# Altium schematic symbol library kmilo17pet-LT_PMIC_LT.SchLib: 2252 symbols (part 29 of 124)
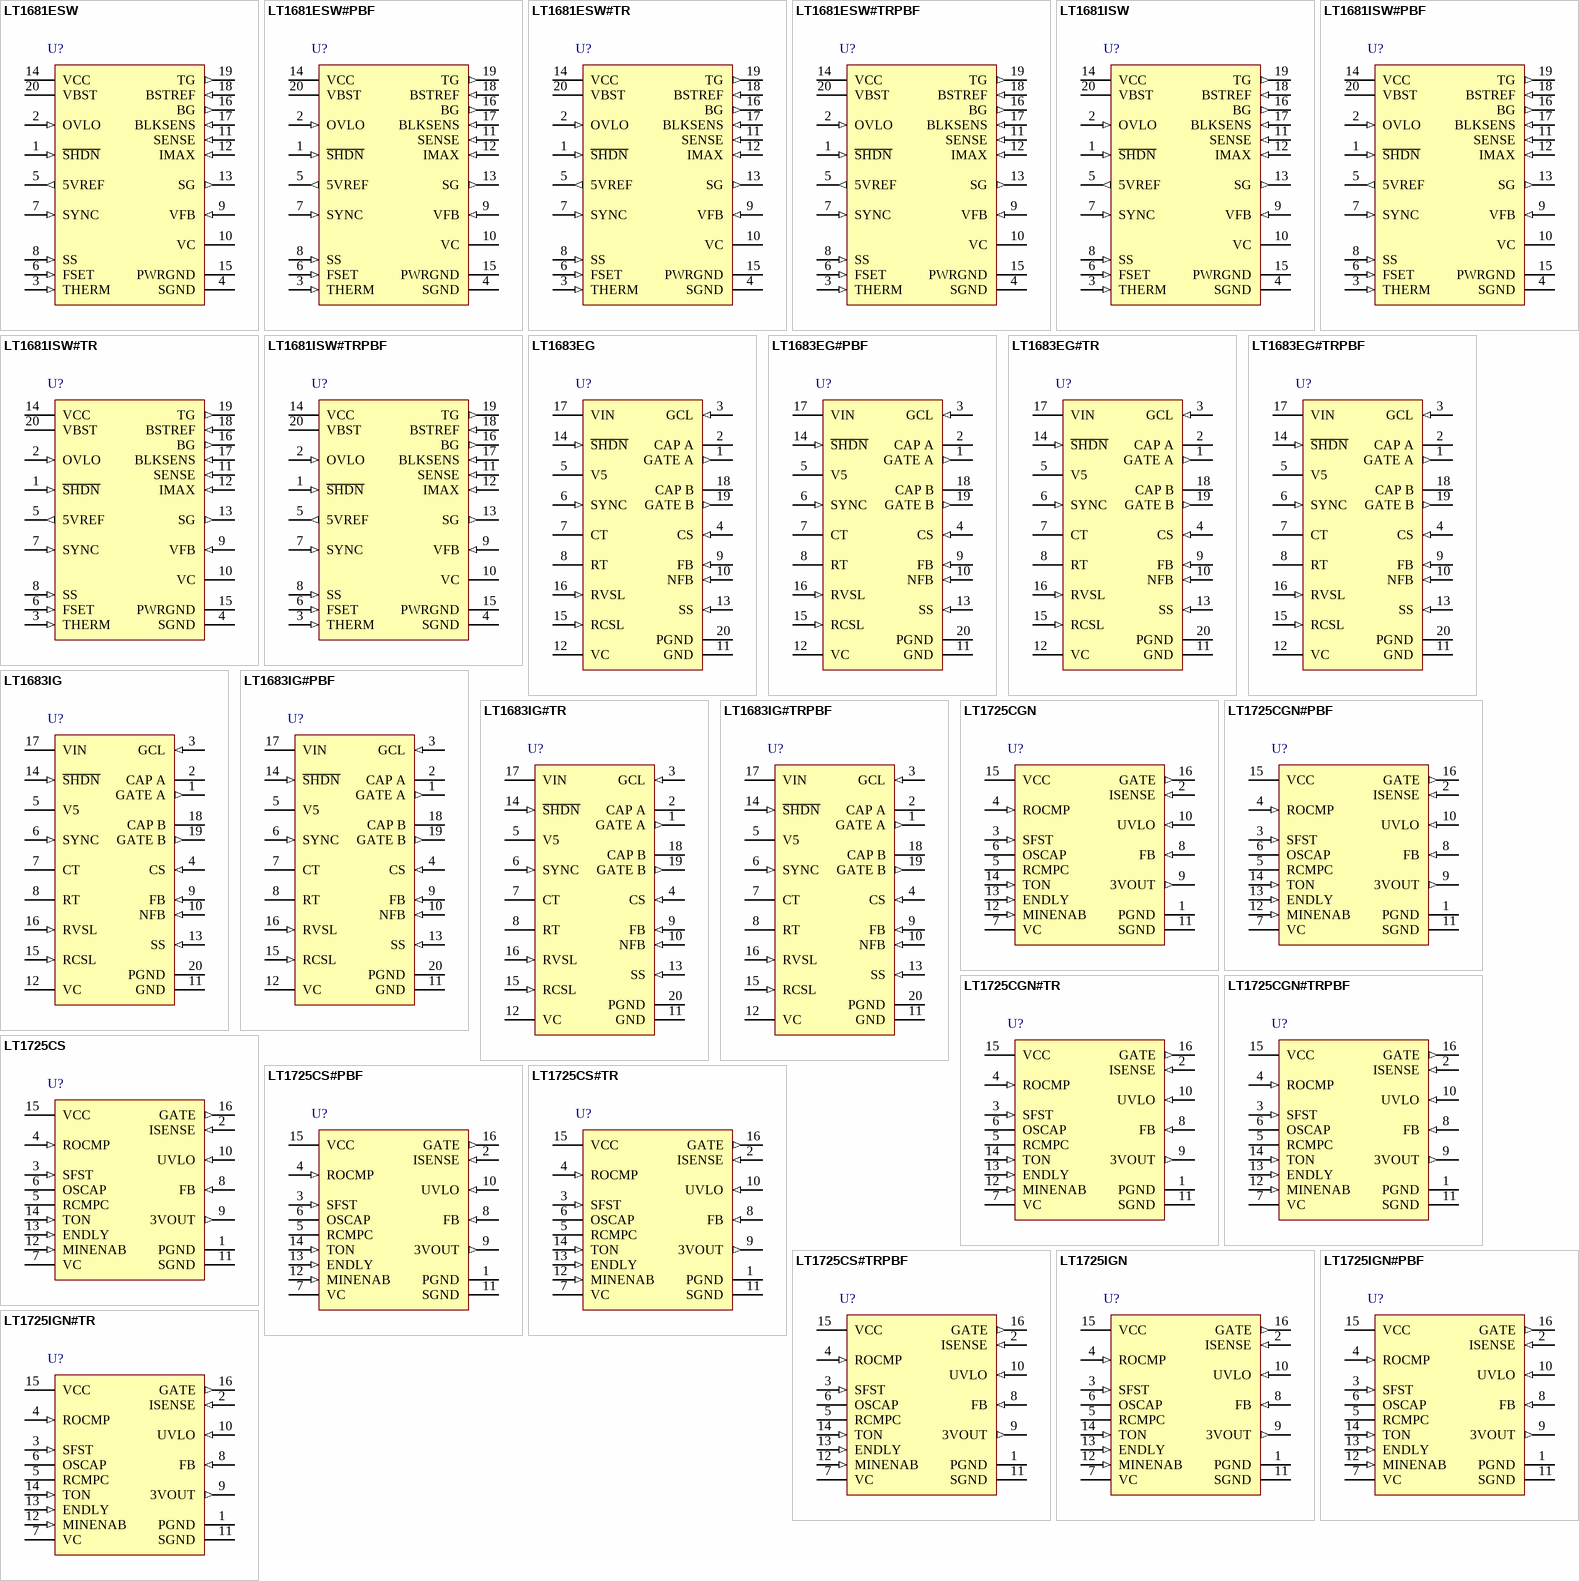
[diagram p99: symbols LT1681ESW to LT1725IGN#TR]

## LT1683EG#TR
designator U?
Slew Rate Controlled Ultralow Noise Push-Pull DC/DC Controller, 20-pin SOP (G-20), -40 to 125 degC, Tape and Reel; Manufacturer: Linear Technology; PartNumber: LT1683EG#TR; Number of Outputs: 1; PackageReference: G-20; PackageDescription: 20-Pin Plastic SSOP, Body 7.2 x 5.3 mm, Pitch 0.65 mm; Supplier 1: Digi-Key; Supplier Part Number 1: LT1683EGTR-ND; RoHS: FALSE
footprint LT-G-20_N (SOP, 20-Leads, Body 7.2x5.3mm, Pitch 0.65mm, IPC Medium Density)
footprint LT-G-20_L (SOP, 20-Leads, Body 7.2x5.3mm, Pitch 0.65mm, IPC High Density)
footprint LT-G-20_M (SOP, 20-Leads, Body 7.2x5.3mm, Pitch 0.65mm, IPC Low Density)
pins: 1 GATE A (out) "These pins connect to the gates of the external N-channel MOSFETs. GATE A and GATE B turn on with alternate clock cycles. These drivers are capable of sinking and sourcing at least 300mA. The GCL pin sets the upper voltage (See Datasheet)", 2 CAP A "These pins are the feedback nodes for the external voltage slewing capacitors. Normally a small 1pf to 5pf capacitor is connected from this pin to the drain of its respective MOSFET. The voltage slew rate is inversely (See Datasheet)", 3 GCL (in) "This pin sets the maximum gate voltage to the GATE A and GATE B pins to the MOSFET gate drives. This pin should be either tied to a Zener, a voltage source or VIN. If the pin is tied to a Zener or a voltage source, the (See Datasheet)", 4 CS (in) "This is the input to the current sense amplifier. It is used for both current mode control and current slewing of the external MOSFETs. Current sense is accomplished via a sense resistor (RS) connected from the sources of (See Datasheet)", 5 V5 (power) "This pin provides a 5V output that can sink or source 10mA for use by external components. V5 source current comes from VIN . Sink current goes to GND. VIN must be greater than 6.5V in order for this voltage to be in (See Datasheet)", 6 SYNC (in) "The SYNC pin can be used to synchronize the part to an external clock. The oscillator frequency should be set close to the external clock frequency. Synchronizing the clock to an external reference is useful for creating (See Datasheet)", 7 CT "The oscillator capacitor pin is used in conjunction with RT to set the oscillator frequency. For RT = 16.9k: COSC(nf) = 129/fOSC(kHz)", 8 RT "The oscillator resistor pin is used to set the charge and discharge currents of the oscillator capacitor. The nominal value is 16.9k. It is possible to adjust this resistance +/-25% to set oscillator frequency more (See Datasheet)", 9 FB (in) "The feedback pin is used for positive voltage sensing. It is the inverting input to the error amplifier. The noninverting input of this amplifier connects internally to a 1.25V reference. If the voltage on this pin exceeds (See Datasheet)", 10 NFB (in) "The negative feedback pin is used for sensing a negative output voltage. The pin is connected to the inverting input of the negative feedback amplifier through a 100k source resistor. The negative feedback amplifier provides (See Datasheet)", 11 GND (power) "Signal Ground. The internal error amplifier, negative feedback amplifier, oscillator, slew control circuitry, V5 regulator, current sense and the bandgap reference are referred to this ground. Keep the connection to this (See Datasheet)", 12 VC "The compensation pin is used for frequency compensation and current limiting. It is the output of the error amplifier and the input of the current comparator. Loop frequency compensation can be performed with an RC network (See Datasheet)", 13 SS (in) "The SS pin allows for ramping of the switch current threshold at startup. Normally a capacitor is placed on this pin to ground. An internal 9uA current source will charge this capacitor up. The voltage on the VC pin cannot (See Datasheet)", 14 ~{SHDN} (in) "The shutdown pin can disable the switcher. Grounding this pin will disable all internal circuitry. Increasing S\H\D\N\ voltage will initially turn on the internal bandgap regulator. This provides a precision threshold for (See Datasheet)", 15 RCSL (in) "A resistor to ground sets the current slew rate for the external drive MOSFETs during switching. The minimum resistor value is 3.3k and the maximum value is 68k. The time to slew between on and off states of the MOSFET (See Datasheet)", 16 RVSL (in) "A resistor to ground sets the voltage slew rate for the drains of the external drive MOSFETs. The minimum resistor value is 3.3k and the maximum value is 68k. The time to slew between on and off states on the MOSFET drain (See Datasheet)", 17 VIN (power) "Input Supply. All supply current for the part comes from this pin including gate drives and V5 regulator. Charge current for gate drives can produce current pulses of hundreds of milliamperes. Bypass this pin with a low ESR (See Datasheet)", 18 CAP B "These pins are the feedback nodes for the external voltage slewing capacitors. Normally a small 1pf to 5pf capacitor is connected from this pin to the drain of its respective MOSFET. The voltage slew rate is inversely (See Datasheet)", 19 GATE B (out) "These pins connect to the gates of the external N-channel MOSFETs. GATE A and GATE B turn on with alternate clock cycles. These drivers are capable of sinking and sourcing at least 300mA. The GCL pin sets the upper voltage (See Datasheet)", 20 PGND (power) "Power Driver Ground. This ground comes from the MOSFET gate drivers. This pin can have several hundred milliamperes of current on it when the external MOSFETs are being turned off."

## LT1683EG#TRPBF
designator U?
Slew Rate Controlled Ultralow Noise Push-Pull DC/DC Controller, 20-pin SOP (G-20), -40 to 125 degC, Pb-Free, Tape and Reel; Manufacturer: Linear Technology; PartNumber: LT1683EG#TRPBF; Number of Outputs: 1; PackageReference: G-20; PackageDescription: 20-Pin Plastic SSOP, Body 7.2 x 5.3 mm, Pitch 0.65 mm; Supplier 1: Digi-Key; Supplier Part Number 1: LT1683EG#TRPBF-ND; RoHS: TRUE
footprint LT-G-20_N (SOP, 20-Leads, Body 7.2x5.3mm, Pitch 0.65mm, IPC Medium Density)
footprint LT-G-20_L (SOP, 20-Leads, Body 7.2x5.3mm, Pitch 0.65mm, IPC High Density)
footprint LT-G-20_M (SOP, 20-Leads, Body 7.2x5.3mm, Pitch 0.65mm, IPC Low Density)
pins: 1 GATE A (out) "These pins connect to the gates of the external N-channel MOSFETs. GATE A and GATE B turn on with alternate clock cycles. These drivers are capable of sinking and sourcing at least 300mA. The GCL pin sets the upper voltage (See Datasheet)", 2 CAP A "These pins are the feedback nodes for the external voltage slewing capacitors. Normally a small 1pf to 5pf capacitor is connected from this pin to the drain of its respective MOSFET. The voltage slew rate is inversely (See Datasheet)", 3 GCL (in) "This pin sets the maximum gate voltage to the GATE A and GATE B pins to the MOSFET gate drives. This pin should be either tied to a Zener, a voltage source or VIN. If the pin is tied to a Zener or a voltage source, the (See Datasheet)", 4 CS (in) "This is the input to the current sense amplifier. It is used for both current mode control and current slewing of the external MOSFETs. Current sense is accomplished via a sense resistor (RS) connected from the sources of (See Datasheet)", 5 V5 (power) "This pin provides a 5V output that can sink or source 10mA for use by external components. V5 source current comes from VIN . Sink current goes to GND. VIN must be greater than 6.5V in order for this voltage to be in (See Datasheet)", 6 SYNC (in) "The SYNC pin can be used to synchronize the part to an external clock. The oscillator frequency should be set close to the external clock frequency. Synchronizing the clock to an external reference is useful for creating (See Datasheet)", 7 CT "The oscillator capacitor pin is used in conjunction with RT to set the oscillator frequency. For RT = 16.9k: COSC(nf) = 129/fOSC(kHz)", 8 RT "The oscillator resistor pin is used to set the charge and discharge currents of the oscillator capacitor. The nominal value is 16.9k. It is possible to adjust this resistance +/-25% to set oscillator frequency more (See Datasheet)", 9 FB (in) "The feedback pin is used for positive voltage sensing. It is the inverting input to the error amplifier. The noninverting input of this amplifier connects internally to a 1.25V reference. If the voltage on this pin exceeds (See Datasheet)", 10 NFB (in) "The negative feedback pin is used for sensing a negative output voltage. The pin is connected to the inverting input of the negative feedback amplifier through a 100k source resistor. The negative feedback amplifier provides (See Datasheet)", 11 GND (power) "Signal Ground. The internal error amplifier, negative feedback amplifier, oscillator, slew control circuitry, V5 regulator, current sense and the bandgap reference are referred to this ground. Keep the connection to this (See Datasheet)", 12 VC "The compensation pin is used for frequency compensation and current limiting. It is the output of the error amplifier and the input of the current comparator. Loop frequency compensation can be performed with an RC network (See Datasheet)", 13 SS (in) "The SS pin allows for ramping of the switch current threshold at startup. Normally a capacitor is placed on this pin to ground. An internal 9uA current source will charge this capacitor up. The voltage on the VC pin cannot (See Datasheet)", 14 ~{SHDN} (in) "The shutdown pin can disable the switcher. Grounding this pin will disable all internal circuitry. Increasing S\H\D\N\ voltage will initially turn on the internal bandgap regulator. This provides a precision threshold for (See Datasheet)", 15 RCSL (in) "A resistor to ground sets the current slew rate for the external drive MOSFETs during switching. The minimum resistor value is 3.3k and the maximum value is 68k. The time to slew between on and off states of the MOSFET (See Datasheet)", 16 RVSL (in) "A resistor to ground sets the voltage slew rate for the drains of the external drive MOSFETs. The minimum resistor value is 3.3k and the maximum value is 68k. The time to slew between on and off states on the MOSFET drain (See Datasheet)", 17 VIN (power) "Input Supply. All supply current for the part comes from this pin including gate drives and V5 regulator. Charge current for gate drives can produce current pulses of hundreds of milliamperes. Bypass this pin with a low ESR (See Datasheet)", 18 CAP B "These pins are the feedback nodes for the external voltage slewing capacitors. Normally a small 1pf to 5pf capacitor is connected from this pin to the drain of its respective MOSFET. The voltage slew rate is inversely (See Datasheet)", 19 GATE B (out) "These pins connect to the gates of the external N-channel MOSFETs. GATE A and GATE B turn on with alternate clock cycles. These drivers are capable of sinking and sourcing at least 300mA. The GCL pin sets the upper voltage (See Datasheet)", 20 PGND (power) "Power Driver Ground. This ground comes from the MOSFET gate drivers. This pin can have several hundred milliamperes of current on it when the external MOSFETs are being turned off."

## LT1683IG
designator U?
Slew Rate Controlled Ultralow Noise Push-Pull DC/DC Controller, 20-pin SOP (G-20), -40 to 125 degC; Manufacturer: Linear Technology; PartNumber: LT1683IG; Number of Outputs: 1; PackageReference: G-20; PackageDescription: 20-Pin Plastic SSOP, Body 7.2 x 5.3 mm, Pitch 0.65 mm; Supplier 1: Digi-Key; Supplier Part Number 1: LT1683IG-ND; RoHS: FALSE
footprint LT-G-20_N (SOP, 20-Leads, Body 7.2x5.3mm, Pitch 0.65mm, IPC Medium Density)
footprint LT-G-20_L (SOP, 20-Leads, Body 7.2x5.3mm, Pitch 0.65mm, IPC High Density)
footprint LT-G-20_M (SOP, 20-Leads, Body 7.2x5.3mm, Pitch 0.65mm, IPC Low Density)
pins: 1 GATE A (out) "These pins connect to the gates of the external N-channel MOSFETs. GATE A and GATE B turn on with alternate clock cycles. These drivers are capable of sinking and sourcing at least 300mA. The GCL pin sets the upper voltage (See Datasheet)", 2 CAP A "These pins are the feedback nodes for the external voltage slewing capacitors. Normally a small 1pf to 5pf capacitor is connected from this pin to the drain of its respective MOSFET. The voltage slew rate is inversely (See Datasheet)", 3 GCL (in) "This pin sets the maximum gate voltage to the GATE A and GATE B pins to the MOSFET gate drives. This pin should be either tied to a Zener, a voltage source or VIN. If the pin is tied to a Zener or a voltage source, the (See Datasheet)", 4 CS (in) "This is the input to the current sense amplifier. It is used for both current mode control and current slewing of the external MOSFETs. Current sense is accomplished via a sense resistor (RS) connected from the sources of (See Datasheet)", 5 V5 (power) "This pin provides a 5V output that can sink or source 10mA for use by external components. V5 source current comes from VIN . Sink current goes to GND. VIN must be greater than 6.5V in order for this voltage to be in (See Datasheet)", 6 SYNC (in) "The SYNC pin can be used to synchronize the part to an external clock. The oscillator frequency should be set close to the external clock frequency. Synchronizing the clock to an external reference is useful for creating (See Datasheet)", 7 CT "The oscillator capacitor pin is used in conjunction with RT to set the oscillator frequency. For RT = 16.9k: COSC(nf) = 129/fOSC(kHz)", 8 RT "The oscillator resistor pin is used to set the charge and discharge currents of the oscillator capacitor. The nominal value is 16.9k. It is possible to adjust this resistance +/-25% to set oscillator frequency more (See Datasheet)", 9 FB (in) "The feedback pin is used for positive voltage sensing. It is the inverting input to the error amplifier. The noninverting input of this amplifier connects internally to a 1.25V reference. If the voltage on this pin exceeds (See Datasheet)", 10 NFB (in) "The negative feedback pin is used for sensing a negative output voltage. The pin is connected to the inverting input of the negative feedback amplifier through a 100k source resistor. The negative feedback amplifier provides (See Datasheet)", 11 GND (power) "Signal Ground. The internal error amplifier, negative feedback amplifier, oscillator, slew control circuitry, V5 regulator, current sense and the bandgap reference are referred to this ground. Keep the connection to this (See Datasheet)", 12 VC "The compensation pin is used for frequency compensation and current limiting. It is the output of the error amplifier and the input of the current comparator. Loop frequency compensation can be performed with an RC network (See Datasheet)", 13 SS (in) "The SS pin allows for ramping of the switch current threshold at startup. Normally a capacitor is placed on this pin to ground. An internal 9uA current source will charge this capacitor up. The voltage on the VC pin cannot (See Datasheet)", 14 ~{SHDN} (in) "The shutdown pin can disable the switcher. Grounding this pin will disable all internal circuitry. Increasing S\H\D\N\ voltage will initially turn on the internal bandgap regulator. This provides a precision threshold for (See Datasheet)", 15 RCSL (in) "A resistor to ground sets the current slew rate for the external drive MOSFETs during switching. The minimum resistor value is 3.3k and the maximum value is 68k. The time to slew between on and off states of the MOSFET (See Datasheet)", 16 RVSL (in) "A resistor to ground sets the voltage slew rate for the drains of the external drive MOSFETs. The minimum resistor value is 3.3k and the maximum value is 68k. The time to slew between on and off states on the MOSFET drain (See Datasheet)", 17 VIN (power) "Input Supply. All supply current for the part comes from this pin including gate drives and V5 regulator. Charge current for gate drives can produce current pulses of hundreds of milliamperes. Bypass this pin with a low ESR (See Datasheet)", 18 CAP B "These pins are the feedback nodes for the external voltage slewing capacitors. Normally a small 1pf to 5pf capacitor is connected from this pin to the drain of its respective MOSFET. The voltage slew rate is inversely (See Datasheet)", 19 GATE B (out) "These pins connect to the gates of the external N-channel MOSFETs. GATE A and GATE B turn on with alternate clock cycles. These drivers are capable of sinking and sourcing at least 300mA. The GCL pin sets the upper voltage (See Datasheet)", 20 PGND (power) "Power Driver Ground. This ground comes from the MOSFET gate drivers. This pin can have several hundred milliamperes of current on it when the external MOSFETs are being turned off."

## LT1683IG#PBF
designator U?
Slew Rate Controlled Ultralow Noise Push-Pull DC/DC Controller, 20-pin SOP (G-20), -40 to 125 degC, Pb-Free; Manufacturer: Linear Technology; PartNumber: LT1683IG#PBF; Number of Outputs: 1; PackageReference: G-20; PackageDescription: 20-Pin Plastic SSOP, Body 7.2 x 5.3 mm, Pitch 0.65 mm; Supplier 1: Digi-Key; Supplier Part Number 1: LT1683IG#PBF-ND; RoHS: TRUE
footprint LT-G-20_N (SOP, 20-Leads, Body 7.2x5.3mm, Pitch 0.65mm, IPC Medium Density)
footprint LT-G-20_L (SOP, 20-Leads, Body 7.2x5.3mm, Pitch 0.65mm, IPC High Density)
footprint LT-G-20_M (SOP, 20-Leads, Body 7.2x5.3mm, Pitch 0.65mm, IPC Low Density)
pins: 1 GATE A (out) "These pins connect to the gates of the external N-channel MOSFETs. GATE A and GATE B turn on with alternate clock cycles. These drivers are capable of sinking and sourcing at least 300mA. The GCL pin sets the upper voltage (See Datasheet)", 2 CAP A "These pins are the feedback nodes for the external voltage slewing capacitors. Normally a small 1pf to 5pf capacitor is connected from this pin to the drain of its respective MOSFET. The voltage slew rate is inversely (See Datasheet)", 3 GCL (in) "This pin sets the maximum gate voltage to the GATE A and GATE B pins to the MOSFET gate drives. This pin should be either tied to a Zener, a voltage source or VIN. If the pin is tied to a Zener or a voltage source, the (See Datasheet)", 4 CS (in) "This is the input to the current sense amplifier. It is used for both current mode control and current slewing of the external MOSFETs. Current sense is accomplished via a sense resistor (RS) connected from the sources of (See Datasheet)", 5 V5 (power) "This pin provides a 5V output that can sink or source 10mA for use by external components. V5 source current comes from VIN . Sink current goes to GND. VIN must be greater than 6.5V in order for this voltage to be in (See Datasheet)", 6 SYNC (in) "The SYNC pin can be used to synchronize the part to an external clock. The oscillator frequency should be set close to the external clock frequency. Synchronizing the clock to an external reference is useful for creating (See Datasheet)", 7 CT "The oscillator capacitor pin is used in conjunction with RT to set the oscillator frequency. For RT = 16.9k: COSC(nf) = 129/fOSC(kHz)", 8 RT "The oscillator resistor pin is used to set the charge and discharge currents of the oscillator capacitor. The nominal value is 16.9k. It is possible to adjust this resistance +/-25% to set oscillator frequency more (See Datasheet)", 9 FB (in) "The feedback pin is used for positive voltage sensing. It is the inverting input to the error amplifier. The noninverting input of this amplifier connects internally to a 1.25V reference. If the voltage on this pin exceeds (See Datasheet)", 10 NFB (in) "The negative feedback pin is used for sensing a negative output voltage. The pin is connected to the inverting input of the negative feedback amplifier through a 100k source resistor. The negative feedback amplifier provides (See Datasheet)", 11 GND (power) "Signal Ground. The internal error amplifier, negative feedback amplifier, oscillator, slew control circuitry, V5 regulator, current sense and the bandgap reference are referred to this ground. Keep the connection to this (See Datasheet)", 12 VC "The compensation pin is used for frequency compensation and current limiting. It is the output of the error amplifier and the input of the current comparator. Loop frequency compensation can be performed with an RC network (See Datasheet)", 13 SS (in) "The SS pin allows for ramping of the switch current threshold at startup. Normally a capacitor is placed on this pin to ground. An internal 9uA current source will charge this capacitor up. The voltage on the VC pin cannot (See Datasheet)", 14 ~{SHDN} (in) "The shutdown pin can disable the switcher. Grounding this pin will disable all internal circuitry. Increasing S\H\D\N\ voltage will initially turn on the internal bandgap regulator. This provides a precision threshold for (See Datasheet)", 15 RCSL (in) "A resistor to ground sets the current slew rate for the external drive MOSFETs during switching. The minimum resistor value is 3.3k and the maximum value is 68k. The time to slew between on and off states of the MOSFET (See Datasheet)", 16 RVSL (in) "A resistor to ground sets the voltage slew rate for the drains of the external drive MOSFETs. The minimum resistor value is 3.3k and the maximum value is 68k. The time to slew between on and off states on the MOSFET drain (See Datasheet)", 17 VIN (power) "Input Supply. All supply current for the part comes from this pin including gate drives and V5 regulator. Charge current for gate drives can produce current pulses of hundreds of milliamperes. Bypass this pin with a low ESR (See Datasheet)", 18 CAP B "These pins are the feedback nodes for the external voltage slewing capacitors. Normally a small 1pf to 5pf capacitor is connected from this pin to the drain of its respective MOSFET. The voltage slew rate is inversely (See Datasheet)", 19 GATE B (out) "These pins connect to the gates of the external N-channel MOSFETs. GATE A and GATE B turn on with alternate clock cycles. These drivers are capable of sinking and sourcing at least 300mA. The GCL pin sets the upper voltage (See Datasheet)", 20 PGND (power) "Power Driver Ground. This ground comes from the MOSFET gate drivers. This pin can have several hundred milliamperes of current on it when the external MOSFETs are being turned off."

## LT1683IG#TR
designator U?
Slew Rate Controlled Ultralow Noise Push-Pull DC/DC Controller, 20-pin SOP (G-20), -40 to 125 degC, Tape and Reel; Manufacturer: Linear Technology; PartNumber: LT1683IG#TR; Number of Outputs: 1; PackageReference: G-20; PackageDescription: 20-Pin Plastic SSOP, Body 7.2 x 5.3 mm, Pitch 0.65 mm; Supplier 1: Digi-Key; Supplier Part Number 1: LT1683IGTR-ND; RoHS: FALSE
footprint LT-G-20_N (SOP, 20-Leads, Body 7.2x5.3mm, Pitch 0.65mm, IPC Medium Density)
footprint LT-G-20_L (SOP, 20-Leads, Body 7.2x5.3mm, Pitch 0.65mm, IPC High Density)
footprint LT-G-20_M (SOP, 20-Leads, Body 7.2x5.3mm, Pitch 0.65mm, IPC Low Density)
pins: 1 GATE A (out) "These pins connect to the gates of the external N-channel MOSFETs. GATE A and GATE B turn on with alternate clock cycles. These drivers are capable of sinking and sourcing at least 300mA. The GCL pin sets the upper voltage (See Datasheet)", 2 CAP A "These pins are the feedback nodes for the external voltage slewing capacitors. Normally a small 1pf to 5pf capacitor is connected from this pin to the drain of its respective MOSFET. The voltage slew rate is inversely (See Datasheet)", 3 GCL (in) "This pin sets the maximum gate voltage to the GATE A and GATE B pins to the MOSFET gate drives. This pin should be either tied to a Zener, a voltage source or VIN. If the pin is tied to a Zener or a voltage source, the (See Datasheet)", 4 CS (in) "This is the input to the current sense amplifier. It is used for both current mode control and current slewing of the external MOSFETs. Current sense is accomplished via a sense resistor (RS) connected from the sources of (See Datasheet)", 5 V5 (power) "This pin provides a 5V output that can sink or source 10mA for use by external components. V5 source current comes from VIN . Sink current goes to GND. VIN must be greater than 6.5V in order for this voltage to be in (See Datasheet)", 6 SYNC (in) "The SYNC pin can be used to synchronize the part to an external clock. The oscillator frequency should be set close to the external clock frequency. Synchronizing the clock to an external reference is useful for creating (See Datasheet)", 7 CT "The oscillator capacitor pin is used in conjunction with RT to set the oscillator frequency. For RT = 16.9k: COSC(nf) = 129/fOSC(kHz)", 8 RT "The oscillator resistor pin is used to set the charge and discharge currents of the oscillator capacitor. The nominal value is 16.9k. It is possible to adjust this resistance +/-25% to set oscillator frequency more (See Datasheet)", 9 FB (in) "The feedback pin is used for positive voltage sensing. It is the inverting input to the error amplifier. The noninverting input of this amplifier connects internally to a 1.25V reference. If the voltage on this pin exceeds (See Datasheet)", 10 NFB (in) "The negative feedback pin is used for sensing a negative output voltage. The pin is connected to the inverting input of the negative feedback amplifier through a 100k source resistor. The negative feedback amplifier provides (See Datasheet)", 11 GND (power) "Signal Ground. The internal error amplifier, negative feedback amplifier, oscillator, slew control circuitry, V5 regulator, current sense and the bandgap reference are referred to this ground. Keep the connection to this (See Datasheet)", 12 VC "The compensation pin is used for frequency compensation and current limiting. It is the output of the error amplifier and the input of the current comparator. Loop frequency compensation can be performed with an RC network (See Datasheet)", 13 SS (in) "The SS pin allows for ramping of the switch current threshold at startup. Normally a capacitor is placed on this pin to ground. An internal 9uA current source will charge this capacitor up. The voltage on the VC pin cannot (See Datasheet)", 14 ~{SHDN} (in) "The shutdown pin can disable the switcher. Grounding this pin will disable all internal circuitry. Increasing S\H\D\N\ voltage will initially turn on the internal bandgap regulator. This provides a precision threshold for (See Datasheet)", 15 RCSL (in) "A resistor to ground sets the current slew rate for the external drive MOSFETs during switching. The minimum resistor value is 3.3k and the maximum value is 68k. The time to slew between on and off states of the MOSFET (See Datasheet)", 16 RVSL (in) "A resistor to ground sets the voltage slew rate for the drains of the external drive MOSFETs. The minimum resistor value is 3.3k and the maximum value is 68k. The time to slew between on and off states on the MOSFET drain (See Datasheet)", 17 VIN (power) "Input Supply. All supply current for the part comes from this pin including gate drives and V5 regulator. Charge current for gate drives can produce current pulses of hundreds of milliamperes. Bypass this pin with a low ESR (See Datasheet)", 18 CAP B "These pins are the feedback nodes for the external voltage slewing capacitors. Normally a small 1pf to 5pf capacitor is connected from this pin to the drain of its respective MOSFET. The voltage slew rate is inversely (See Datasheet)", 19 GATE B (out) "These pins connect to the gates of the external N-channel MOSFETs. GATE A and GATE B turn on with alternate clock cycles. These drivers are capable of sinking and sourcing at least 300mA. The GCL pin sets the upper voltage (See Datasheet)", 20 PGND (power) "Power Driver Ground. This ground comes from the MOSFET gate drivers. This pin can have several hundred milliamperes of current on it when the external MOSFETs are being turned off."

## LT1683IG#TRPBF
designator U?
Slew Rate Controlled Ultralow Noise Push-Pull DC/DC Controller, 20-pin SOP (G-20), -40 to 125 degC, Pb-Free, Tape and Reel; Manufacturer: Linear Technology; PartNumber: LT1683IG#TRPBF; Number of Outputs: 1; PackageReference: G-20; PackageDescription: 20-Pin Plastic SSOP, Body 7.2 x 5.3 mm, Pitch 0.65 mm; Supplier 1: Digi-Key; Supplier Part Number 1: LT1683IG#TRPBF-ND; RoHS: TRUE
footprint LT-G-20_N (SOP, 20-Leads, Body 7.2x5.3mm, Pitch 0.65mm, IPC Medium Density)
footprint LT-G-20_L (SOP, 20-Leads, Body 7.2x5.3mm, Pitch 0.65mm, IPC High Density)
footprint LT-G-20_M (SOP, 20-Leads, Body 7.2x5.3mm, Pitch 0.65mm, IPC Low Density)
pins: 1 GATE A (out) "These pins connect to the gates of the external N-channel MOSFETs. GATE A and GATE B turn on with alternate clock cycles. These drivers are capable of sinking and sourcing at least 300mA. The GCL pin sets the upper voltage (See Datasheet)", 2 CAP A "These pins are the feedback nodes for the external voltage slewing capacitors. Normally a small 1pf to 5pf capacitor is connected from this pin to the drain of its respective MOSFET. The voltage slew rate is inversely (See Datasheet)", 3 GCL (in) "This pin sets the maximum gate voltage to the GATE A and GATE B pins to the MOSFET gate drives. This pin should be either tied to a Zener, a voltage source or VIN. If the pin is tied to a Zener or a voltage source, the (See Datasheet)", 4 CS (in) "This is the input to the current sense amplifier. It is used for both current mode control and current slewing of the external MOSFETs. Current sense is accomplished via a sense resistor (RS) connected from the sources of (See Datasheet)", 5 V5 (power) "This pin provides a 5V output that can sink or source 10mA for use by external components. V5 source current comes from VIN . Sink current goes to GND. VIN must be greater than 6.5V in order for this voltage to be in (See Datasheet)", 6 SYNC (in) "The SYNC pin can be used to synchronize the part to an external clock. The oscillator frequency should be set close to the external clock frequency. Synchronizing the clock to an external reference is useful for creating (See Datasheet)", 7 CT "The oscillator capacitor pin is used in conjunction with RT to set the oscillator frequency. For RT = 16.9k: COSC(nf) = 129/fOSC(kHz)", 8 RT "The oscillator resistor pin is used to set the charge and discharge currents of the oscillator capacitor. The nominal value is 16.9k. It is possible to adjust this resistance +/-25% to set oscillator frequency more (See Datasheet)", 9 FB (in) "The feedback pin is used for positive voltage sensing. It is the inverting input to the error amplifier. The noninverting input of this amplifier connects internally to a 1.25V reference. If the voltage on this pin exceeds (See Datasheet)", 10 NFB (in) "The negative feedback pin is used for sensing a negative output voltage. The pin is connected to the inverting input of the negative feedback amplifier through a 100k source resistor. The negative feedback amplifier provides (See Datasheet)", 11 GND (power) "Signal Ground. The internal error amplifier, negative feedback amplifier, oscillator, slew control circuitry, V5 regulator, current sense and the bandgap reference are referred to this ground. Keep the connection to this (See Datasheet)", 12 VC "The compensation pin is used for frequency compensation and current limiting. It is the output of the error amplifier and the input of the current comparator. Loop frequency compensation can be performed with an RC network (See Datasheet)", 13 SS (in) "The SS pin allows for ramping of the switch current threshold at startup. Normally a capacitor is placed on this pin to ground. An internal 9uA current source will charge this capacitor up. The voltage on the VC pin cannot (See Datasheet)", 14 ~{SHDN} (in) "The shutdown pin can disable the switcher. Grounding this pin will disable all internal circuitry. Increasing S\H\D\N\ voltage will initially turn on the internal bandgap regulator. This provides a precision threshold for (See Datasheet)", 15 RCSL (in) "A resistor to ground sets the current slew rate for the external drive MOSFETs during switching. The minimum resistor value is 3.3k and the maximum value is 68k. The time to slew between on and off states of the MOSFET (See Datasheet)", 16 RVSL (in) "A resistor to ground sets the voltage slew rate for the drains of the external drive MOSFETs. The minimum resistor value is 3.3k and the maximum value is 68k. The time to slew between on and off states on the MOSFET drain (See Datasheet)", 17 VIN (power) "Input Supply. All supply current for the part comes from this pin including gate drives and V5 regulator. Charge current for gate drives can produce current pulses of hundreds of milliamperes. Bypass this pin with a low ESR (See Datasheet)", 18 CAP B "These pins are the feedback nodes for the external voltage slewing capacitors. Normally a small 1pf to 5pf capacitor is connected from this pin to the drain of its respective MOSFET. The voltage slew rate is inversely (See Datasheet)", 19 GATE B (out) "These pins connect to the gates of the external N-channel MOSFETs. GATE A and GATE B turn on with alternate clock cycles. These drivers are capable of sinking and sourcing at least 300mA. The GCL pin sets the upper voltage (See Datasheet)", 20 PGND (power) "Power Driver Ground. This ground comes from the MOSFET gate drivers. This pin can have several hundred milliamperes of current on it when the external MOSFETs are being turned off."

## LT1725CGN
designator U?
General Purpose Isolated Flyback Controller, 16-pin SOP (GN-16), 0 to 100 degC; Manufacturer: Linear Technology; PartNumber: LT1725CGN; Number of Outputs: 1; PackageReference: GN-16; PackageDescription: 16-Pin Plastic SSOP, Body 4.9 x 3.9 mm, Pitch 0.635 mm; Supplier 1: Digi-Key; Supplier Part Number 1: LT1725CGN-ND; RoHS: FALSE
footprint LT-GN-16_N (SOP, 16-Leads, Body 5x4mm, Pitch 0.635mm, IPC Medium Density)
footprint LT-GN-16_L (SOP, 16-Leads, Body 5x4mm, Pitch 0.635mm, IPC High Density)
footprint LT-GN-16_M (SOP, 16-Leads, Body 5x4mm, Pitch 0.635mm, IPC Low Density)
pins: 1 PGND (power) "The power ground pin carries the GATE node discharge current. This is typically a current spike of several hundred mA with a duration of tens of nanoseconds. It should be connected directly to a good quality ground plane.", 2 ISENSE (in) "Pin to measure switch current with external sense resistor. The sense resistor should be of a noninductive construction as high speed performance is essential. Proper grounding technique is also required to avoid distortion (See Datasheet)", 3 SFST (in) "Pin for optional external capacitor to effect soft-start function. See Applications Information for details.", 4 ROCMP (in) "Input pin for optional external load compensation resistor. Use of this pin allows nominal compensation for nonzero output impedance in the power transformer secondary circuit, including secondary winding impedance, output (See Datasheet)", 5 RCMPC "Pin for external filter capacitor for optional load compensation function. A common 0.1uF ceramic capacitor will suffice for most applications. See Applications Information for further details.", 6 OSCAP "Pin for external timing capacitor to set oscillator switching frequency. See Applications Information for details.", 7 VC "This is the control voltage pin which is the output of the feedback amplifier and the input of the current comparator. Frequency compensation of the overall loop is effected in most cases by placing a capacitor between this (See Datasheet)", 8 FB (in) "Input pin for external ¡°feedback¡± resistor divider. The ratio of this divider, times the internal bandgap (VBG) reference, times the effective output tothird winding transformer turns ratio is the primary determinant(See Datasheet)", 9 3VOUT (out) "Output pin for nominal 3V reference. This facilitates various user applications. This node is internally current limited for protection and is intended to drive either moderate capacitive loads of several hundred pF or less, (See Datasheet)", 10 UVLO (in), 11 SGND (power) "The signal ground pin is a clean ground. The internal reference, oscillator and feedback amplifier are referred to it. Keep the ground path connection to the FB pin, OSCAP capacitor and the VC compensation capacitor free of (See Datasheet)", 12 MINENAB (in) "Pin for external programming resistor to set minimum enable time. See Applications Information for details.", 13 ENDLY (in) "Pin for external programming resistor to set enable delay time. See Applications Information for details.", 14 TON (in) "Pin for external programming resistor to set switch minimum on time. See Applications Information for details.", 15 VCC (power), 16 GATE (out) "This is the gate drive to the external power MOSFET switch and has large dynamic currents flowing through it. Keep the trace to the MOSFET as short as possible to minimize electromagnetic radiation and voltage spikes. A (See Datasheet)"

## LT1725CGN#PBF
designator U?
General Purpose Isolated Flyback Controller, 16-pin SOP (GN-16), 0 to 100 degC, Pb-Free; Manufacturer: Linear Technology; PartNumber: LT1725CGN#PBF; Number of Outputs: 1; PackageReference: GN-16; PackageDescription: 16-Pin Plastic SSOP, Body 4.9 x 3.9 mm, Pitch 0.635 mm; Supplier 1: Digi-Key; Supplier Part Number 1: LT1725CGN#PBF-ND; RoHS: TRUE
footprint LT-GN-16_N (SOP, 16-Leads, Body 5x4mm, Pitch 0.635mm, IPC Medium Density)
footprint LT-GN-16_L (SOP, 16-Leads, Body 5x4mm, Pitch 0.635mm, IPC High Density)
footprint LT-GN-16_M (SOP, 16-Leads, Body 5x4mm, Pitch 0.635mm, IPC Low Density)
pins: 1 PGND (power) "The power ground pin carries the GATE node discharge current. This is typically a current spike of several hundred mA with a duration of tens of nanoseconds. It should be connected directly to a good quality ground plane.", 2 ISENSE (in) "Pin to measure switch current with external sense resistor. The sense resistor should be of a noninductive construction as high speed performance is essential. Proper grounding technique is also required to avoid distortion (See Datasheet)", 3 SFST (in) "Pin for optional external capacitor to effect soft-start function. See Applications Information for details.", 4 ROCMP (in) "Input pin for optional external load compensation resistor. Use of this pin allows nominal compensation for nonzero output impedance in the power transformer secondary circuit, including secondary winding impedance, output (See Datasheet)", 5 RCMPC "Pin for external filter capacitor for optional load compensation function. A common 0.1uF ceramic capacitor will suffice for most applications. See Applications Information for further details.", 6 OSCAP "Pin for external timing capacitor to set oscillator switching frequency. See Applications Information for details.", 7 VC "This is the control voltage pin which is the output of the feedback amplifier and the input of the current comparator. Frequency compensation of the overall loop is effected in most cases by placing a capacitor between this (See Datasheet)", 8 FB (in) "Input pin for external ¡°feedback¡± resistor divider. The ratio of this divider, times the internal bandgap (VBG) reference, times the effective output tothird winding transformer turns ratio is the primary determinant(See Datasheet)", 9 3VOUT (out) "Output pin for nominal 3V reference. This facilitates various user applications. This node is internally current limited for protection and is intended to drive either moderate capacitive loads of several hundred pF or less, (See Datasheet)", 10 UVLO (in), 11 SGND (power) "The signal ground pin is a clean ground. The internal reference, oscillator and feedback amplifier are referred to it. Keep the ground path connection to the FB pin, OSCAP capacitor and the VC compensation capacitor free of (See Datasheet)", 12 MINENAB (in) "Pin for external programming resistor to set minimum enable time. See Applications Information for details.", 13 ENDLY (in) "Pin for external programming resistor to set enable delay time. See Applications Information for details.", 14 TON (in) "Pin for external programming resistor to set switch minimum on time. See Applications Information for details.", 15 VCC (power), 16 GATE (out) "This is the gate drive to the external power MOSFET switch and has large dynamic currents flowing through it. Keep the trace to the MOSFET as short as possible to minimize electromagnetic radiation and voltage spikes. A (See Datasheet)"

## LT1725CGN#TR
designator U?
General Purpose Isolated Flyback Controller, 16-pin SOP (GN-16), 0 to 100 degC, Tape and Reel; Manufacturer: Linear Technology; PartNumber: LT1725CGN#TR; Number of Outputs: 1; PackageReference: GN-16; PackageDescription: 16-Pin Plastic SSOP, Body 4.9 x 3.9 mm, Pitch 0.635 mm; Supplier 1: Digi-Key; Supplier Part Number 1: LT1725CGN#TR-ND; RoHS: FALSE
footprint LT-GN-16_N (SOP, 16-Leads, Body 5x4mm, Pitch 0.635mm, IPC Medium Density)
footprint LT-GN-16_L (SOP, 16-Leads, Body 5x4mm, Pitch 0.635mm, IPC High Density)
footprint LT-GN-16_M (SOP, 16-Leads, Body 5x4mm, Pitch 0.635mm, IPC Low Density)
pins: 1 PGND (power) "The power ground pin carries the GATE node discharge current. This is typically a current spike of several hundred mA with a duration of tens of nanoseconds. It should be connected directly to a good quality ground plane.", 2 ISENSE (in) "Pin to measure switch current with external sense resistor. The sense resistor should be of a noninductive construction as high speed performance is essential. Proper grounding technique is also required to avoid distortion (See Datasheet)", 3 SFST (in) "Pin for optional external capacitor to effect soft-start function. See Applications Information for details.", 4 ROCMP (in) "Input pin for optional external load compensation resistor. Use of this pin allows nominal compensation for nonzero output impedance in the power transformer secondary circuit, including secondary winding impedance, output (See Datasheet)", 5 RCMPC "Pin for external filter capacitor for optional load compensation function. A common 0.1uF ceramic capacitor will suffice for most applications. See Applications Information for further details.", 6 OSCAP "Pin for external timing capacitor to set oscillator switching frequency. See Applications Information for details.", 7 VC "This is the control voltage pin which is the output of the feedback amplifier and the input of the current comparator. Frequency compensation of the overall loop is effected in most cases by placing a capacitor between this (See Datasheet)", 8 FB (in) "Input pin for external ¡°feedback¡± resistor divider. The ratio of this divider, times the internal bandgap (VBG) reference, times the effective output tothird winding transformer turns ratio is the primary determinant(See Datasheet)", 9 3VOUT (out) "Output pin for nominal 3V reference. This facilitates various user applications. This node is internally current limited for protection and is intended to drive either moderate capacitive loads of several hundred pF or less, (See Datasheet)", 10 UVLO (in), 11 SGND (power) "The signal ground pin is a clean ground. The internal reference, oscillator and feedback amplifier are referred to it. Keep the ground path connection to the FB pin, OSCAP capacitor and the VC compensation capacitor free of (See Datasheet)", 12 MINENAB (in) "Pin for external programming resistor to set minimum enable time. See Applications Information for details.", 13 ENDLY (in) "Pin for external programming resistor to set enable delay time. See Applications Information for details.", 14 TON (in) "Pin for external programming resistor to set switch minimum on time. See Applications Information for details.", 15 VCC (power), 16 GATE (out) "This is the gate drive to the external power MOSFET switch and has large dynamic currents flowing through it. Keep the trace to the MOSFET as short as possible to minimize electromagnetic radiation and voltage spikes. A (See Datasheet)"

## LT1725CGN#TRPBF
designator U?
General Purpose Isolated Flyback Controller, 16-pin SOP (GN-16), 0 to 100 degC, Pb-Free, Tape and Reel; Manufacturer: Linear Technology; PartNumber: LT1725CGN#TRPBF; Number of Outputs: 1; PackageReference: GN-16; PackageDescription: 16-Pin Plastic SSOP, Body 4.9 x 3.9 mm, Pitch 0.635 mm; Supplier 1: Digi-Key; Supplier Part Number 1: LT1725CGN#TRPBF-ND; RoHS: TRUE
footprint LT-GN-16_N (SOP, 16-Leads, Body 5x4mm, Pitch 0.635mm, IPC Medium Density)
footprint LT-GN-16_L (SOP, 16-Leads, Body 5x4mm, Pitch 0.635mm, IPC High Density)
footprint LT-GN-16_M (SOP, 16-Leads, Body 5x4mm, Pitch 0.635mm, IPC Low Density)
pins: 1 PGND (power) "The power ground pin carries the GATE node discharge current. This is typically a current spike of several hundred mA with a duration of tens of nanoseconds. It should be connected directly to a good quality ground plane.", 2 ISENSE (in) "Pin to measure switch current with external sense resistor. The sense resistor should be of a noninductive construction as high speed performance is essential. Proper grounding technique is also required to avoid distortion (See Datasheet)", 3 SFST (in) "Pin for optional external capacitor to effect soft-start function. See Applications Information for details.", 4 ROCMP (in) "Input pin for optional external load compensation resistor. Use of this pin allows nominal compensation for nonzero output impedance in the power transformer secondary circuit, including secondary winding impedance, output (See Datasheet)", 5 RCMPC "Pin for external filter capacitor for optional load compensation function. A common 0.1uF ceramic capacitor will suffice for most applications. See Applications Information for further details.", 6 OSCAP "Pin for external timing capacitor to set oscillator switching frequency. See Applications Information for details.", 7 VC "This is the control voltage pin which is the output of the feedback amplifier and the input of the current comparator. Frequency compensation of the overall loop is effected in most cases by placing a capacitor between this (See Datasheet)", 8 FB (in) "Input pin for external ¡°feedback¡± resistor divider. The ratio of this divider, times the internal bandgap (VBG) reference, times the effective output tothird winding transformer turns ratio is the primary determinant(See Datasheet)", 9 3VOUT (out) "Output pin for nominal 3V reference. This facilitates various user applications. This node is internally current limited for protection and is intended to drive either moderate capacitive loads of several hundred pF or less, (See Datasheet)", 10 UVLO (in), 11 SGND (power) "The signal ground pin is a clean ground. The internal reference, oscillator and feedback amplifier are referred to it. Keep the ground path connection to the FB pin, OSCAP capacitor and the VC compensation capacitor free of (See Datasheet)", 12 MINENAB (in) "Pin for external programming resistor to set minimum enable time. See Applications Information for details.", 13 ENDLY (in) "Pin for external programming resistor to set enable delay time. See Applications Information for details.", 14 TON (in) "Pin for external programming resistor to set switch minimum on time. See Applications Information for details.", 15 VCC (power), 16 GATE (out) "This is the gate drive to the external power MOSFET switch and has large dynamic currents flowing through it. Keep the trace to the MOSFET as short as possible to minimize electromagnetic radiation and voltage spikes. A (See Datasheet)"